# Altium footprint library AD9172+K7.PcbLib: 77 footprints (part 5 of 5)
Each footprint in its own frame and in the unit in brackets; x right, y up, seen from the top. Pads: shape width x height; smd on the part's side, far side on the other; paste and mask are expansions set on the pad; w line width, h text height; cw(c..) or ccw(c..) is an arc to the next point about the centre after c.
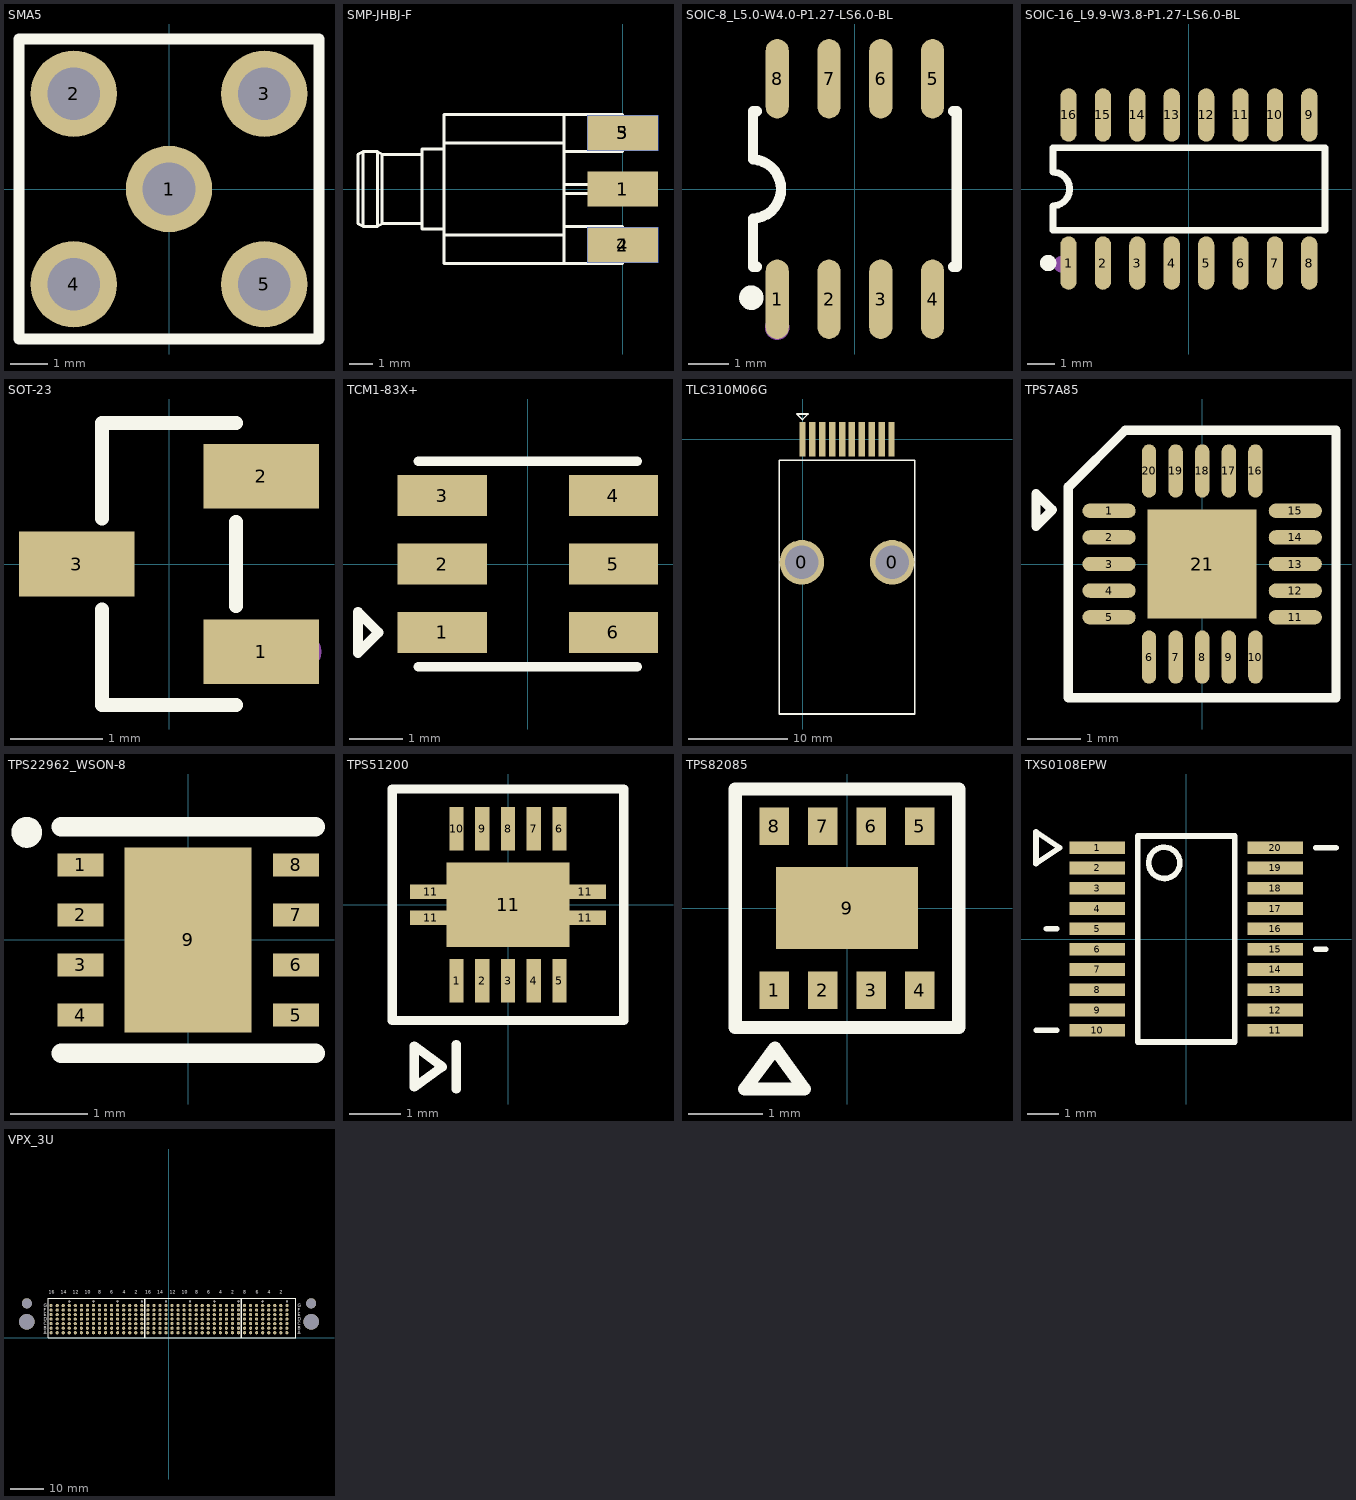
[diagram p4: the footprints below, top view; thin cyan lines are the x and y axes]

## SMA5 [mm]
pads (5):
  round 2.3 hole 1.4: 1(0,0) 2(-2.54,2.54) 3(2.54,2.54) 4(-2.54,-2.54) 5(2.54,-2.54)
Top Overlay:
  lines w0.305: -4,-4 -4,4 4,4 4,-4 -4,-4

## SMP-JHBJ-F [mm]
pads (5):
  rect 3x1.5 smd: 1(0,0) 2(0,-2.385) 3(0,2.385)
  rect 3x1.5 smd far side: 4(0,-2.385) 5(0,2.385)
Top Overlay:
  lines w0.127: -8.535,-1.475 -10.23,-1.475 ; -8.535,1.475 -10.23,1.475 ; -7.6,-1.7 -8.535,-1.7 -8.535,1.571 -8.535,1.7 -7.6,1.7 ; -2.5,-1.6 0,-1.6 0,-3.169 ; -2.5,-0.19 0,-0.19 0,0.19 -2.5,0.19 ; -2.5,1.6 0,1.6 0,3.169 ; -11.05,-1.59 -10.44,-1.59 ; -11.05,-1.59 -11.05,1.47 -11.05,1.59 ; -11.05,-1.59 -11.26,-1.475 -11.26,1.363 -11.26,1.475 -11.05,1.59 ; -11.05,1.59 -10.44,1.59 ; -10.44,-1.59 -10.23,-1.475 ; -10.44,-1.59 -10.44,1.47 -10.44,1.59 ; -10.44,1.59 -10.23,1.475 ; -10.23,-1.475 -10.23,1.363 -10.23,1.475 ; -7.6,-1.957 -7.6,1.957 ; -7.6,-1.957 -2.5,-1.957 ; -7.6,-1.957 -7.6,-3.175 0,-3.175 0,-3.169 ; -7.6,1.957 -7.6,3.175 0,3.175 0,3.169 ; -7.6,1.957 -2.5,1.957 ; -2.5,-1.957 -2.5,1.957 ; -2.5,-1.957 -2.5,-3.169 0,-3.169 ; -2.5,1.957 -2.5,3.169 0,3.169

## SOIC-8_L5.0-W4.0-P1.27-LS6.0-BL [mil]
pads (8):
  oval 22.38x76.78 smd: 1(-75,-106.5) 2(-25,-106.5) 3(25,-106.5) 4(75,-106.5) 5(75,106.5) 6(25,106.5) 7(-25,106.5) 8(-75,106.5)
Top Overlay:
  circle w11.81: c-100,-105 r5.91
  lines w10: -98.43,-28.61 ccw(c-99.99,0) -98.23,28.59 ; -98.42,-28.61 -98.42,-59.05 -98.42,-75 -94.83,-75 ; -98.42,28.59 -98.42,59.05 -98.42,75 -94.83,75 ; 94.83,-75 98.42,-75 98.42,-59.05 98.42,59.05 98.42,75 94.83,75
Mechanical 15:
  circle w11.81: c-75,-133.86 r5.91

## SOIC-16_L9.9-W3.8-P1.27-LS6.0-BL [mm]
pads (16):
  oval 0.602x1.971 smd: 1(-4.445,-2.736) 2(-3.175,-2.736) 3(-1.905,-2.736) 4(-0.635,-2.736) 5(0.635,-2.736) 6(1.905,-2.736) 7(3.175,-2.736) 8(4.445,-2.736) 9(4.445,2.736) 10(3.175,2.736) 11(1.905,2.736) 12(0.635,2.736) 13(-0.635,2.736) 14(-1.905,2.736) 15(-3.175,2.736) 16(-4.445,2.736)
Top Overlay:
  circle w0.3: c-5.198,-2.736 r0.15
  lines w0.254: -5.026,0.621 -5.026,1.521 5.026,1.521 5.026,-1.521 -5.026,-1.521 -5.026,-0.621 ccw(c-5.026,0.001) -5.026,0.623
Mechanical 15:
  circle w0.3: c-4.71,-2.78 r0.15

## SOT-23 [mm]
pads (3):
  rect 1.25x0.7 smd mask+0.051: 1(1,-0.95) 2(1,0.95) 3(-1,0)
Top Overlay:
  lines w0.152: -0.726,-0.495 -0.726,-1.526 0.726,-1.526 ; -0.726,0.495 -0.726,1.526 0.726,1.526 ; 0.726,-0.455 0.726,0.455
Mechanical 6:
  circle w0.2: c1.45,-0.95 r0.1

## TCM1-83X+ [mil]
pads (6):
  rect 65x30 smd: 1(-62.5,-50) 2(-62.5,0) 3(-62.5,50) 4(62.5,50) 5(62.5,0) 6(62.5,-50)
Top Overlay:
  lines w7: -80,-75 80,-75 ; -80,75 80,75 ; -124,-65 -124,-35 -109,-50 -124,-65

## TLC310M06G [mm]
pads (12):
  round 4.5 hole 3.4: 0(-0.07,-12.44) 0(9.07,-12.44)
  rect 0.65x3.5 smd: 1(0,0) 2(1,0) 3(2,0) 4(3,0) 5(4,0) 6(5,0) 7(6,0) 8(7,0) 9(8,0) 10(9,0)
Top Overlay:
  lines w0.178: -0.025,2.007 -0.584,2.565 0.559,2.565 0,2.007 ; -2.36,-27.79 -2.36,-2.108 11.36,-2.108 11.36,-27.79 -2.36,-27.79

## TPS7A85 [mm]
pads (21):
  oval 1x0.27 smd: 1(-1.75,1) 2(-1.75,0.5) 3(-1.75,0) 4(-1.75,-0.5) 5(-1.75,-1) 11(1.75,-1) 12(1.75,-0.5) 13(1.75,0) 14(1.75,0.5) 15(1.75,1)
  oval 0.27x1 smd: 6(-1,-1.75) 7(-0.5,-1.75) 8(0,-1.75) 9(0.5,-1.75) 10(1,-1.75) 16(1,1.75) 17(0.5,1.75) 18(0,1.75) 19(-0.5,1.75) 20(-1,1.75)
  rect 2.05x2.05 smd: 21(0,0)
Top Overlay:
  lines w0.178: -3.124,0.711 -3.124,1.321 -2.819,1.016 -3.124,0.711 ; -2.515,-2.515 -2.515,1.448 -1.448,2.515 2.515,2.515 2.515,-2.515 -2.515,-2.515

## TPS22962_WSON-8 [mm]
pads (9):
  rect 0.6x0.3 smd: 1(-1.4,0.975) 2(-1.4,0.325) 3(-1.4,-0.325) 4(-1.4,-0.975) 5(1.4,-0.975) 6(1.4,-0.325) 7(1.4,0.325) 8(1.4,0.975)
  rect 1.65x2.4 smd: 9(0,0)
Top Overlay:
  lines w0.2: -1.999,1.397 cw(c-2.099,1.398) -1.999,1.4
  lines w0.254: -1.651,-1.473 1.649,-1.473 ; -1.649,1.473 1.651,1.473

## TPS51200 [mm]
pads (15):
  rect 0.279x0.85 smd: 1(-1,-1.475) 2(-0.5,-1.475) 3(0,-1.475) 4(0.5,-1.475) 5(1,-1.475) 6(1,1.475) 7(0.5,1.475) 8(0,1.475) 9(-0.5,1.475) 10(-1,1.475)
  rect 0.8x0.28 smd: 11(-1.5,-0.25) 11(-1.5,0.25) 11(1.5,-0.25) 11(1.5,0.25)
  rect 2.4x1.65 smd: 11(0,0)
Top Overlay:
  lines w0.178: -1.007,-3.58 -1.007,-2.717 ; -2.25,-2.25 -2.25,2.25 2.25,2.25 2.25,-2.25 -2.25,-2.25 ; -1.821,-3.543 -1.821,-2.743 -1.275,-3.151 -1.821,-3.543

## TPS82085 [mm]
pads (9):
  rect 0.4x0.5 smd: 1(-0.975,-1.1) 2(-0.325,-1.1) 3(0.325,-1.1) 4(0.975,-1.1) 5(0.975,1.1) 6(0.325,1.1) 7(-0.325,1.1) 8(-0.975,1.1)
  rect 1.9x1.1 smd: 9(0,0)
Top Overlay:
  lines w0.178: -1.5,-1.6 1.5,-1.6 1.5,1.6 -1.5,1.6 -1.5,-1.6 ; -1.373,-2.426 -0.573,-2.426 -0.965,-1.88 -1.373,-2.426

## TXS0108EPW [mm]
pads (20):
  rect 1.778x0.406 smd: 1(-2.85,2.925) 2(-2.85,2.275) 3(-2.85,1.625) 4(-2.85,0.975) 5(-2.85,0.325) 6(-2.85,-0.325) 7(-2.85,-0.975) 8(-2.85,-1.625) 9(-2.85,-2.275) 10(-2.85,-2.925) 11(2.85,-2.925) 12(2.85,-2.275) 13(2.85,-1.625) 14(2.85,-0.975) 15(2.85,-0.325) 16(2.85,0.325) 17(2.85,0.975) 18(2.85,1.625) 19(2.85,2.275) 20(2.85,2.925)
Top Overlay:
  circle w0.178: c-0.703,2.438 r0.5
  lines w0.178: -4.8,-2.925 -4.15,-2.925 ; -4.475,0.325 -4.15,0.325 ; 4.15,-0.325 4.475,-0.325 ; 4.15,2.925 4.8,2.925 ; -4.812,2.417 -4.812,3.433 -4.05,2.925 -4.812,2.417 ; -1.55,-3.3 1.55,-3.3 1.55,3.3 -1.55,3.3 -1.55,-3.3

## VPX_3U [mm]
pads (294):
  round 0.95 hole 0.45: P0_A1(35.1,1.5) P0_A2(33.3,1.5) P0_A3(31.5,1.5) P0_A4(29.7,1.5) P0_A5(27.9,1.5) P0_A6(26.1,1.5) P0_A7(24.3,1.5) P0_A8(22.5,1.5) P0_B1(35.1,2.85) P0_B2(33.3,2.85) P0_B3(31.5,2.85) P0_B4(29.7,2.85) P0_B5(27.9,2.85) P0_B6(26.1,2.85) P0_B7(24.3,2.85) P0_B8(22.5,2.85) P0_C1(35.1,4.2) P0_C2(33.3,4.2) P0_C3(31.5,4.2) P0_C4(29.7,4.2) P0_C5(27.9,4.2) P0_C6(26.1,4.2) P0_C7(24.3,4.2) P0_C8(22.5,4.2) P0_D1(35.1,5.55) P0_D2(33.3,5.55) P0_D3(31.5,5.55) P0_D4(29.7,5.55) P0_D5(27.9,5.55) P0_D6(26.1,5.55) P0_D7(24.3,5.55) P0_D8(22.5,5.55) P0_E1(35.1,6.9) P0_E2(33.3,6.9) P0_E3(31.5,6.9) P0_E4(29.7,6.9) P0_E5(27.9,6.9) P0_E6(26.1,6.9) P0_E7(24.3,6.9) P0_E8(22.5,6.9) P0_F1(35.1,8.25) P0_F2(33.3,8.25) P0_F3(31.5,8.25) P0_F4(29.7,8.25) P0_F5(27.9,8.25) P0_F6(26.1,8.25) P0_F7(24.3,8.25) P0_F8(22.5,8.25) P0_G1(35.1,9.6) P0_G2(33.3,9.6) P0_G3(31.5,9.6) P0_G4(29.7,9.6) P0_G5(27.9,9.6) P0_G6(26.1,9.6) P0_G7(24.3,9.6) P0_G8(22.5,9.6) P1_A1(20.7,1.5) P1_A2(18.9,1.5) P1_A3(17.1,1.5) P1_A4(15.3,1.5) P1_A5(13.5,1.5) P1_A6(11.7,1.5) P1_A7(9.9,1.5) P1_A8(8.1,1.5) P1_A9(6.3,1.5) P1_A10(4.5,1.5) P1_A11(2.7,1.5) P1_A12(0.9,1.5) P1_A13(-0.9,1.5) P1_A14(-2.7,1.5) P1_A15(-4.5,1.5) P1_A16(-6.3,1.5) P1_B1(20.7,2.85) P1_B2(18.9,2.85) P1_B3(17.1,2.85) P1_B4(15.3,2.85) P1_B5(13.5,2.85) P1_B6(11.7,2.85) P1_B7(9.9,2.85) P1_B8(8.1,2.85) P1_B9(6.3,2.85) P1_B10(4.5,2.85) P1_B11(2.7,2.85) P1_B12(0.9,2.85) P1_B13(-0.9,2.85) P1_B14(-2.7,2.85) P1_B15(-4.5,2.85) P1_B16(-6.3,2.85) P1_C1(20.7,4.2) P1_C2(18.9,4.2) P1_C3(17.1,4.2) P1_C4(15.3,4.2) P1_C5(13.5,4.2) P1_C6(11.7,4.2) P1_C7(9.9,4.2) P1_C8(8.1,4.2) P1_C9(6.3,4.2) P1_C10(4.5,4.2) P1_C11(2.7,4.2) P1_C12(0.9,4.2) P1_C13(-0.9,4.2) P1_C14(-2.7,4.2) P1_C15(-4.5,4.2) P1_C16(-6.3,4.2) P1_D1(20.7,5.55) P1_D2(18.9,5.55) P1_D3(17.1,5.55) P1_D4(15.3,5.55) P1_D5(13.5,5.55) P1_D6(11.7,5.55) P1_D7(9.9,5.55) P1_D8(8.1,5.55) P1_D9(6.3,5.55) P1_D10(4.5,5.55) P1_D11(2.7,5.55) P1_D12(0.9,5.55) P1_D13(-0.9,5.55) P1_D14(-2.7,5.55) P1_D15(-4.5,5.55) P1_D16(-6.3,5.55) P1_E1(20.7,6.9) P1_E2(18.9,6.9) P1_E3(17.1,6.9) P1_E4(15.3,6.9) P1_E5(13.5,6.9) P1_E6(11.7,6.9) P1_E7(9.9,6.9) P1_E8(8.1,6.9) P1_E9(6.3,6.9) P1_E10(4.5,6.9) P1_E11(2.7,6.9) P1_E12(0.9,6.9) P1_E13(-0.9,6.9) P1_E14(-2.7,6.9) P1_E15(-4.5,6.9) P1_E16(-6.3,6.9) P1_F1(20.7,8.25) P1_F2(18.9,8.25) P1_F3(17.1,8.25) P1_F4(15.3,8.25) P1_F5(13.5,8.25) P1_F6(11.7,8.25) P1_F7(9.9,8.25) P1_F8(8.1,8.25) P1_F9(6.3,8.25) P1_F10(4.5,8.25) P1_F11(2.7,8.25) P1_F12(0.9,8.25) P1_F13(-0.9,8.25) P1_F14(-2.7,8.25) P1_F15(-4.5,8.25) P1_F16(-6.3,8.25) P1_G1(20.7,9.6) P1_G2(18.9,9.6) P1_G3(17.1,9.6) P1_G4(15.3,9.6) P1_G5(13.5,9.6) P1_G6(11.7,9.6) P1_G7(9.9,9.6) P1_G8(8.1,9.6) P1_G9(6.3,9.6) P1_G10(4.5,9.6) P1_G11(2.7,9.6) P1_G12(0.9,9.6) P1_G13(-0.9,9.6) P1_G14(-2.7,9.6) P1_G15(-4.5,9.6) P1_G16(-6.3,9.6) P2_A1(-8.1,1.5) P2_A2(-9.9,1.5) P2_A3(-11.7,1.5) P2_A4(-13.5,1.5) P2_A5(-15.3,1.5) P2_A6(-17.1,1.5) P2_A7(-18.9,1.5) P2_A8(-20.7,1.5) P2_A9(-22.5,1.5) P2_A10(-24.3,1.5) P2_A11(-26.1,1.5) P2_A12(-27.9,1.5) P2_A13(-29.7,1.5) P2_A14(-31.5,1.5) P2_A15(-33.3,1.5) P2_A16(-35.1,1.5) P2_B1(-8.1,2.85) P2_B2(-9.9,2.85) P2_B3(-11.7,2.85) P2_B4(-13.5,2.85) P2_B5(-15.3,2.85) P2_B6(-17.1,2.85) P2_B7(-18.9,2.85) P2_B8(-20.7,2.85) P2_B9(-22.5,2.85) P2_B10(-24.3,2.85) P2_B11(-26.1,2.85) P2_B12(-27.9,2.85) P2_B13(-29.7,2.85) P2_B14(-31.5,2.85) P2_B15(-33.3,2.85) P2_B16(-35.1,2.85) P2_C1(-8.1,4.2) P2_C2(-9.9,4.2) P2_C3(-11.7,4.2) P2_C4(-13.5,4.2) P2_C5(-15.3,4.2) P2_C6(-17.1,4.2) P2_C7(-18.9,4.2) P2_C8(-20.7,4.2) P2_C9(-22.5,4.2) P2_C10(-24.3,4.2) P2_C11(-26.1,4.2) P2_C12(-27.9,4.2) P2_C13(-29.7,4.2) P2_C14(-31.5,4.2) P2_C15(-33.3,4.2) P2_C16(-35.1,4.2) P2_D1(-8.1,5.55) P2_D2(-9.9,5.55) P2_D3(-11.7,5.55) P2_D4(-13.5,5.55) P2_D5(-15.3,5.55) P2_D6(-17.1,5.55) P2_D7(-18.9,5.55) P2_D8(-20.7,5.55) P2_D9(-22.5,5.55) P2_D10(-24.3,5.55) P2_D11(-26.1,5.55) P2_D12(-27.9,5.55) P2_D13(-29.7,5.55) P2_D14(-31.5,5.55) P2_D15(-33.3,5.55) P2_D16(-35.1,5.55) P2_E1(-8.1,6.9) P2_E2(-9.9,6.9) P2_E3(-11.7,6.9) P2_E4(-13.5,6.9) P2_E5(-15.3,6.9) P2_E6(-17.1,6.9) P2_E7(-18.9,6.9) P2_E8(-20.7,6.9) P2_E9(-22.5,6.9) P2_E10(-24.3,6.9) P2_E11(-26.1,6.9) P2_E12(-27.9,6.9) P2_E13(-29.7,6.9) P2_E14(-31.5,6.9) P2_E15(-33.3,6.9) P2_E16(-35.1,6.9) P2_F1(-8.1,8.25) P2_F2(-9.9,8.25) P2_F3(-11.7,8.25) P2_F4(-13.5,8.25) P2_F5(-15.3,8.25) P2_F6(-17.1,8.25) P2_F7(-18.9,8.25) P2_F8(-20.7,8.25) P2_F9(-22.5,8.25) P2_F10(-24.3,8.25) P2_F11(-26.1,8.25) P2_F12(-27.9,8.25) P2_F13(-29.7,8.25) P2_F14(-31.5,8.25) P2_F15(-33.3,8.25) P2_F16(-35.1,8.25) P2_G1(-8.1,9.6) P2_G2(-9.9,9.6) P2_G3(-11.7,9.6) P2_G4(-13.5,9.6) P2_G5(-15.3,9.6) P2_G6(-17.1,9.6) P2_G7(-18.9,9.6) P2_G8(-20.7,9.6) P2_G9(-22.5,9.6) P2_G10(-24.3,9.6) P2_G11(-26.1,9.6) P2_G12(-27.9,9.6) P2_G13(-29.7,9.6) P2_G14(-31.5,9.6) P2_G15(-33.3,9.6) P2_G16(-35.1,9.6)
  round 4.65 hole 4.65: ""(-42.35,4.75) ""(42.35,4.75)
  round 3 hole 3: ""(-42.35,10.25) ""(42.35,10.25)
  round 0.6 hole 0.6: ""(-29.7,10.85) ""(-22.5,10.85) ""(-15.3,10.85) ""(-8.1,10.85) ""(-0.9,10.85) ""(6.3,10.85) ""(13.5,10.85) ""(20.7,10.85) ""(27.9,10.85) ""(35.1,10.85)
Top Overlay:
  lines w0.254: -35.94,0 -35.94,11.81 -7.26,11.81 -7.26,0 -35.94,0 ; -7.14,0 -7.14,11.81 21.54,11.81 21.54,0 -7.14,0 ; 21.66,0 21.66,11.81 37.74,11.81 37.74,0 21.66,0
  text "F" at -37.233,7.75 h1
  text "E" at -37.233,6.4 h1
  text "D" at -37.233,5.05 h1
  text "C" at -37.233,3.7 h1
  text "G" at -37.233,9.1 h1
  text "A" at -37.233,1 h1
  text "B" at -37.233,2.35 h1
  text "F" at 38.367,7.75 h1
  text "E" at 38.367,6.4 h1
  text "D" at 38.367,5.05 h1
  text "C" at 38.367,3.7 h1
  text "G" at 38.367,9.1 h1
  text "A" at 38.367,1 h1
  text "B" at 38.367,2.35 h1
  text "6" at 25.767,13.15 h1
  text "8" at 22.167,13.15 h1
  text "4" at 29.367,13.15 h1
  text "2" at 32.967,13.15 h1
  text "14" at -3.45,13.15 h1
  text "16" at -7.05,13.15 h1
  text "12" at 0.15,13.15 h1
  text "10" at 3.75,13.15 h1
  text "2" at 18.567,13.15 h1
  text "4" at 14.967,13.15 h1
  text "8" at 7.767,13.15 h1
  text "6" at 11.367,13.15 h1
  text "14" at -32.25,13.15 h1
  text "16" at -35.85,13.15 h1
  text "12" at -28.65,13.15 h1
  text "10" at -25.05,13.15 h1
  text "2" at -10.233,13.15 h1
  text "4" at -13.833,13.15 h1
  text "8" at -21.033,13.15 h1
  text "6" at -17.433,13.15 h1
Bottom Overlay:
  text "F" at -36.567,7.75 h1
  text "E" at -36.567,6.4 h1
  text "D" at -36.567,5.05 h1
  text "C" at -36.567,3.7 h1
  text "G" at -36.567,9.1 h1
  text "A" at -36.567,1 h1
  text "B" at -36.567,2.35 h1
  text "6" at 26.433,13.15 h1
  text "8" at 22.833,13.15 h1
  text "4" at 30.033,13.15 h1
  text "2" at 33.633,13.15 h1
  text "F" at 39.033,7.75 h1
  text "E" at 39.033,6.4 h1
  text "D" at 39.033,5.05 h1
  text "C" at 39.033,3.7 h1
  text "G" at 39.033,9.1 h1
  text "A" at 39.033,1 h1
  text "B" at 39.033,2.35 h1
  text "2" at 19.233,13.15 h1
  text "4" at 15.633,13.15 h1
  text "8" at 8.433,13.15 h1
  text "6" at 12.033,13.15 h1
  text "10" at 5.25,13.15 h1
  text "12" at 1.65,13.15 h1
  text "14" at -1.95,13.15 h1
  text "16" at -5.55,13.15 h1
  text "2" at -9.567,13.15 h1
  text "4" at -13.167,13.15 h1
  text "8" at -20.367,13.15 h1
  text "6" at -16.767,13.15 h1
  text "10" at -23.55,13.15 h1
  text "12" at -27.15,13.15 h1
  text "14" at -30.75,13.15 h1
  text "16" at -34.35,13.15 h1

## XTAL-3225 25M [mm]